# EAGLE library part LTC3601EUD#PBF (library circuit_tree)
IC
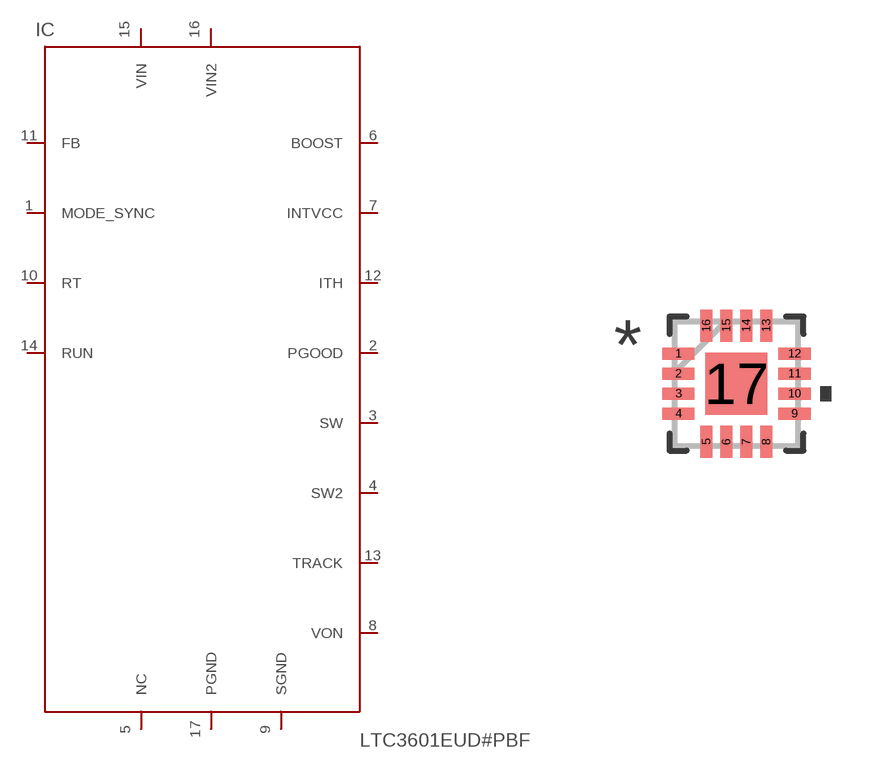
[diagram p5: symbol with the pads of QFN-16_EP; footprint QFN-16_EP]

Designator prefix IC

## LTC3601EUD#PBF  [QFN-16_EP]
1  MODE_SYNC  pas
2  PGOOD  pas
3  SW  pas
4  SW2  pas
5  NC  pas
6  BOOST  pas
7  INTVCC  pas
8  VON  pas
9  SGND  pas
10  RT  pas
11  FB  pas
12  ITH  pas
13  TRACK  pas
14  RUN  pas
15  VIN  pas
16  VIN2  pas
17  PGND  pas

## Footprint QFN-16_EP (pad centres in mm)
smd 0.805 x 0.3: 1 -1.452,0.75; 2 -1.452,0.25; 3 -1.452,-0.25; 4 -1.452,-0.75; 9 1.452,-0.75; 10 1.452,-0.25; 11 1.452,0.25; 12 1.452,0.75
smd 0.3 x 0.805: 5 -0.75,-1.452; 6 -0.25,-1.452; 7 0.25,-1.452; 8 0.75,-1.452; 13 0.75,1.452; 14 0.25,1.452; 15 -0.25,1.452; 16 -0.75,1.452
smd 1.55 x 1.55: 17 0,0